# Altium footprint library BB.001.00.00.PcbLib: 93 footprints (part 5 of 6)
Each footprint in its own frame and in the unit in brackets; x right, y up, seen from the top. Pads: shape width x height; smd on the part's side, far side on the other; paste and mask are expansions set on the pad; w line width, h text height; cw(c..) or ccw(c..) is an arc to the next point about the centre after c.
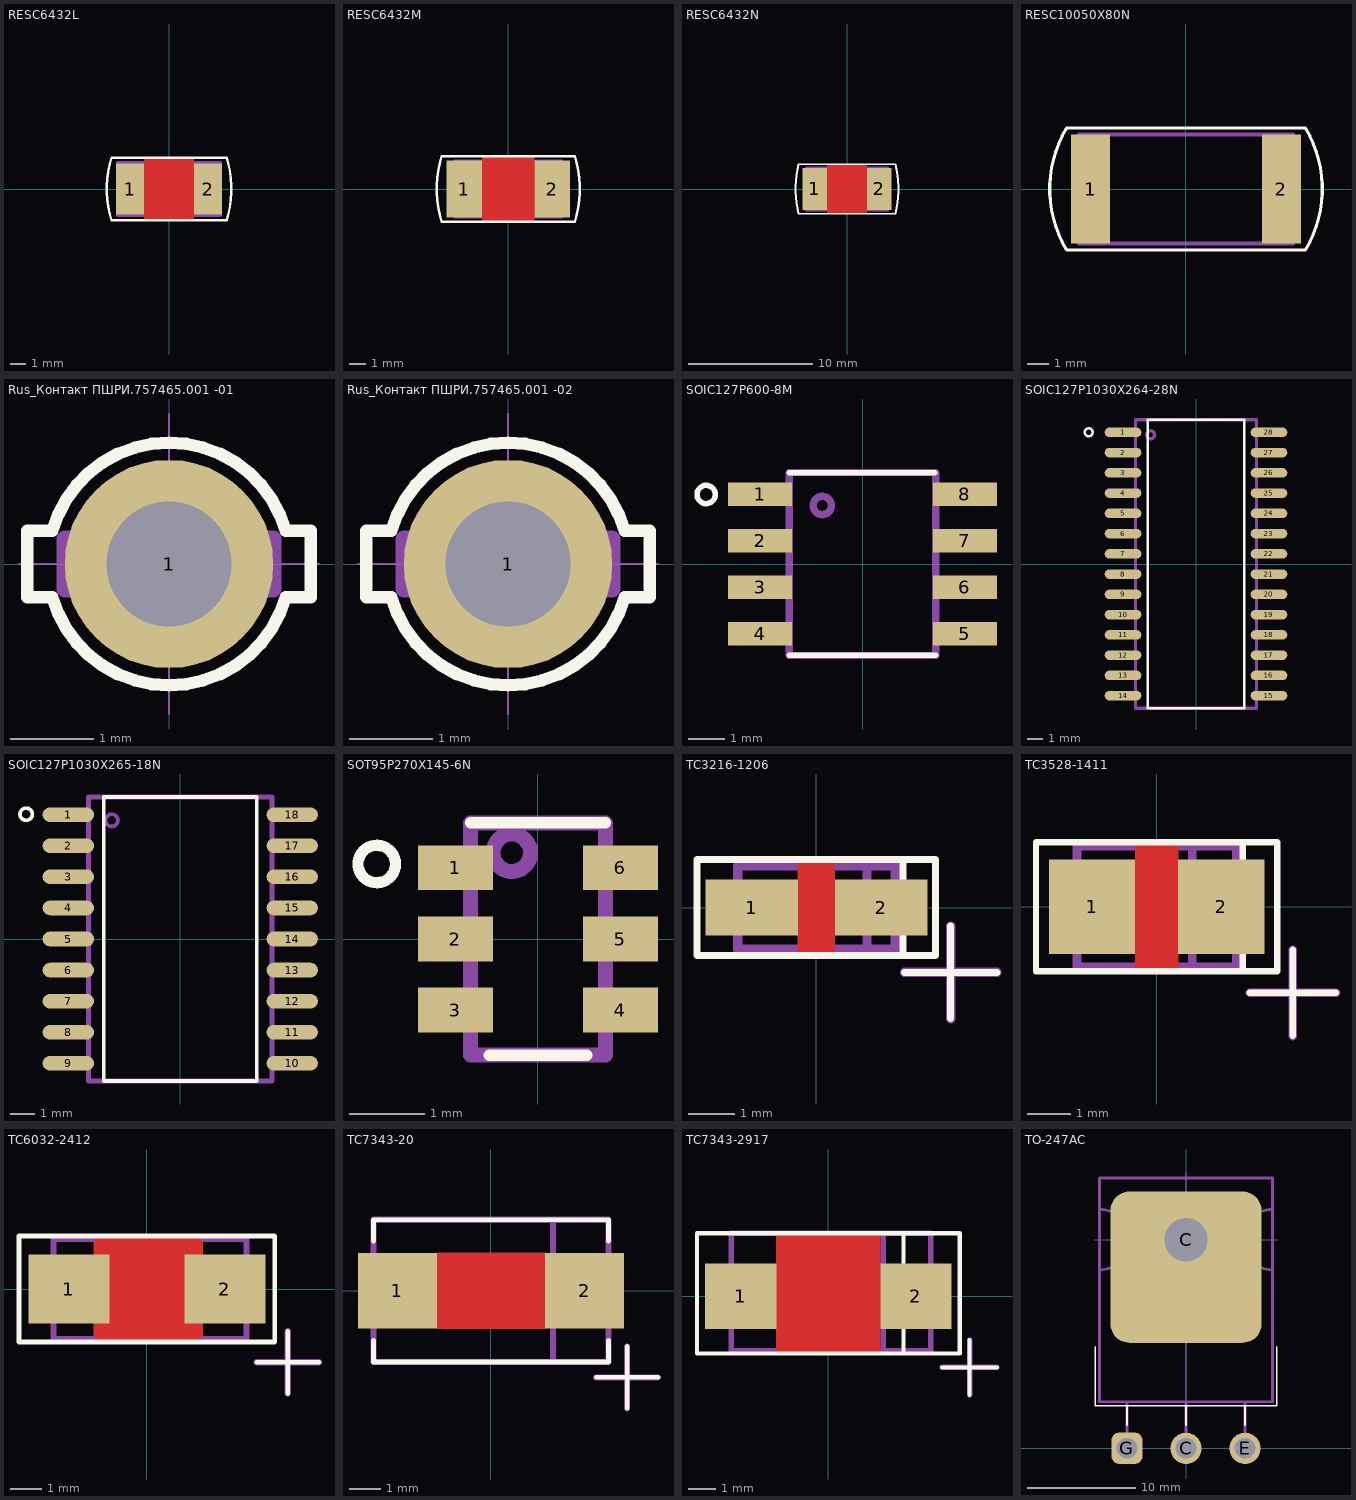
[diagram p4: the footprints below, top view; thin cyan lines are the x and y axes]

## RESC6432L [mm] "Chip Resistor, Body 6.4x3.2mm, IPC High Density"
height 1.2
pads (2):
  rect 1.8x3.3 smd: 1(-2.5,0) 2(2.5,0)
Top Layer:
  pour cut-out: -1.6,2 -1.6,-2 1.6,-2 1.6,2
Top Overlay:
  lines w0.15: -3.7,-2 cw(c2.813,0) -3.7,2 3.7,2 cw(c-2.817,0) 3.7,-2 -3.7,-2
TopAsy:
  lines w0.2: -3.3,-1.7 -3.3,1.7 3.3,1.7 3.3,-1.7 -3.3,-1.7
3D body: height 1.2, standoff 0, extent -3.3,-1.7 3.3,1.7

## RESC6432M [mm] "Chip Resistor, Body 6.4x3.2mm, IPC Low Density"
height 1.2
pads (2):
  rect 2.2x3.5 smd: 1(-2.7,0) 2(2.7,0)
Top Layer:
  pour cut-out: -1.6,2 -1.6,-2 1.6,-2 1.6,2
Top Overlay:
  lines w0.15: -4.1,-2 cw(c2.4,0) -4.1,2 4.1,2 cw(c-2.417,0) 4.1,-2 -4.1,-2
TopAsy:
  lines w0.2: -3.3,-1.7 3.3,-1.7 3.3,1.7 -3.3,1.7 -3.3,-1.7
3D body: height 1.2, standoff 0, extent -3.3,-1.7 3.3,1.7

## RESC6432N [mm] "Chip Resistor, Body 6.4x3.2mm, IPC Medium Density"
height 1.2
pads (2):
  rect 2x3.4 smd: 1(-2.6,0) 2(2.6,0)
Top Layer:
  pour cut-out: -1.6,2 -1.6,-2 1.6,-2 1.6,2
Top Overlay:
  lines w0.15: -3.9,-2 cw(c3.975,0) -3.9,2 3.9,2 cw(c-3.975,0) 3.9,-2 -3.9,-2
TopAsy:
  lines w0.2: -3.3,-1.7 3.3,-1.7 3.3,1.7 -3.3,1.7 -3.3,-1.7
3D body: height 1.2, standoff 0, extent -3.3,-1.7 3.3,1.7

## RESC10050X80N [mm] "SMD; Body:10,2Х5,2Х0,8mm; Чип-резистор"
height 0.8
pads (2):
  rect 1.85x5.2 smd paste+0: 1(-4.55,0) 2(4.55,0)
Top Overlay:
  lines w0.15: -5.7,-2.9 cw(c-0.844,0) -5.7,2.9 5.7,2.9 cw(c0.844,0) 5.7,-2.9 -5.7,-2.9
TopAsy:
  lines w0.2: -4,-2.5 -4,2.5 ; 4,-2.5 4,2.5 ; -5.1,-2.6 5.1,-2.6 5.1,2.6 -5.1,2.6 -5.1,-2.6
3D body "Резистор Р1-12-2,0-750 Ом _ Т АЛЯР.434110.005 ТУ.stp": height 0.8, standoff 0, extent -5,-2.5 5,2.5

## Rus_Контакт ПШРИ.757465.001 -01 [mm] "THD; Body: L=2.5mm, B=0,6mm, H=8mm; Weight: 0.13g; д.н. ПШРИ.757465.001 -01, Контакт для ПП толщиной 1,5 мм, при объемном монтаже, см. ОСТ4 Г0.812.201"
height 5.2
pads (1):
  round 2.5 / inner round 2.5 / far side oval 4.5x3 hole 1.5: 1(0,0)
Top Overlay:
  lines w0.15: -1.7,-0.4 -1.7,0.4 -1.4,0.4 cw(c0,0) 1.4,0.4 1.7,0.4 1.7,-0.4 1.4,-0.4 cw(c0,0) -1.4,-0.4 -1.7,-0.4
TopAsy:
  lines w0.025: -1.8,0 1.8,0 ; 0,-1.8 0,1.8
  lines w0.2: -1.25,-0.3 1.25,-0.3 1.25,0.3 -1.25,0.3 -1.25,-0.3
3D body "ПШРИ.757465.001 -01 (Контакт по ОСТ4 Г0.812.201).STEP": height 5.2, standoff -2.8, extent -1.25,-0.3 1.25,0.3

## Rus_Контакт ПШРИ.757465.001 -02 [mm] "THD; Body: L=2.5mm, B=0,6mm, H=8,5mm; Weight: 0.14g; д.н. ПШРИ.757465.001 -01, Контакт для ПП толщиной 2 мм, при объемном монтаже, см. ОСТ4 Г0.812.201"
height 5.2
pads (1):
  round 2.5 / inner round 2.5 / far side oval 4.5x3 hole 1.5: 1(0,0)
Top Overlay:
  lines w0.15: -1.7,-0.4 -1.4,-0.4 ccw(c0,0) 1.4,-0.4 1.7,-0.4 1.7,0.4 1.4,0.4 ccw(c0,0) -1.4,0.4 -1.7,0.4 -1.7,-0.4
TopAsy:
  lines w0.025: -1.8,0 1.8,0 ; 0,-1.8 0,1.8
  lines w0.2: -1.25,-0.3 -1.25,0.3 1.25,0.3 1.25,-0.3 -1.25,-0.3
3D body "ПШРИ.757465.001 -02 (Контакт по ОСТ4 Г0.812.201).STEP": height 5.2, standoff -3.3, extent -1.25,-0.3 1.25,0.3

## SOIC127P600-8M [mm] "SOIC, 8-Leads, Body 4.9x3.9mm, Pitch 1.27mm, IPC Low Density"
height 1.75
pads (8):
  rect 1.75x0.65 smd: 1(-2.8,1.905) 2(-2.8,0.635) 3(-2.8,-0.635) 4(-2.8,-1.905) 5(2.8,-1.905) 6(2.8,-0.635) 7(2.8,0.635) 8(2.8,1.905)
Top Overlay:
  circle w0.15: c-4.275,1.9 r0.25
  lines w0.15: -2,-2.5 2,-2.5 ; -2,2.5 1.975,2.5
TopAsy:
  circle w0.2: c-1.1,1.6 r0.25
  lines w0.2: -2,-2.5 2,-2.5 2,2.5 -2,2.5 -2,-2.5
3D body "SOIC127P600-8.STEP": height 1.7, standoff 0, extent -3,-2.54 3,2.54

## SOIC127P1030X264-28N [mm] "SOIC, 28-Leads, Body 17,86x7,46mm, Pitch 1,27mm, IPC Medium Density"
height 2.64
pads (28):
  oval 2.3x0.6 smd: 1(-4.575,8.255) 2(-4.575,6.985) 3(-4.575,5.715) 4(-4.575,4.445) 5(-4.575,3.175) 6(-4.575,1.905) 7(-4.575,0.635) 8(-4.575,-0.635) 9(-4.575,-1.905) 10(-4.575,-3.175) 11(-4.575,-4.445) 12(-4.575,-5.715) 13(-4.575,-6.985) 14(-4.575,-8.255) 15(4.575,-8.255) 16(4.575,-6.985) 17(4.575,-5.715) 18(4.575,-4.445) 19(4.575,-3.175) 20(4.575,-1.905) 21(4.575,-0.635) 22(4.575,0.635) 23(4.575,1.905) 24(4.575,3.175) 25(4.575,4.445) 26(4.575,5.715) 27(4.575,6.985) 28(4.575,8.255)
Top Overlay:
  circle w0.15: c-6.73,8.26 r0.25
  lines w0.15: -3.025,-9.05 -3.025,9.05 3.025,9.05 3.025,-9.05 -3.025,-9.05
TopAsy:
  circle w0.2: c-2.85,8.1 r0.25
  lines w0.2: -3.8,-9.05 -3.8,9.05 3.8,9.05 3.8,-9.05 -3.8,-9.05
3D body "SW3dPS-80072036 SO28.STEP": height 2.66, standoff 0.02, extent -5.335,-9.04 5.335,9.04

## SOIC127P1030X265-18N [mm] "SOIC, 18-Leads, Body 11,55x7,50mm, Pitch 1,27mm, IPC Medium Density"
height 2.65
pads (18):
  oval 2.1x0.6 smd: 1(-4.575,5.08) 2(-4.575,3.81) 3(-4.575,2.54) 4(-4.575,1.27) 5(-4.575,0) 6(-4.575,-1.27) 7(-4.575,-2.54) 8(-4.575,-3.81) 9(-4.575,-5.08) 10(4.575,-5.08) 11(4.575,-3.81) 12(4.575,-2.54) 13(4.575,-1.27) 14(4.575,0) 15(4.575,1.27) 16(4.575,2.54) 17(4.575,3.81) 18(4.575,5.08)
Top Overlay:
  circle w0.15: c-6.3,5.1 r0.25
  lines w0.15: -3.125,-5.8 -3.125,5.8 3.125,5.8 3.125,-5.8 -3.125,-5.8
TopAsy:
  circle w0.15: c-2.8,4.85 r0.25
  lines w0.2: -3.75,-5.8 -3.75,5.8 3.75,5.8 3.75,-5.8 -3.75,-5.8
3D body "SO18W.STEP": height 2.55, standoff 0, extent -5.1,-5.775 5.2,5.775

## SOT95P270X145-6N [mm] "SOT23, 6-Leads, Body 2,90x2,70mm, Pitch 0,95mm, IPC Medium Density"
height 1.45
pads (6):
  rect 1x0.6 smd: 1(-1.1,0.95) 2(-1.1,0) 3(-1.1,-0.95) 4(1.1,-0.95) 5(1.1,0) 6(1.1,0.95)
Top Overlay:
  circle w0.15: c-2.15,1 r0.25
  lines w0.15: -0.9,1.55 0.9,1.55 ; -0.65,-1.55 0.65,-1.55
TopAsy:
  lines w0.2: -0.11,1.219 ccw(c-0.35,1.15) -0.1,1.15 ; -0.9,-1.55 0.9,-1.55 0.9,1.55 -0.9,1.55 -0.9,-1.55
3D body "SOT23-6_AND_SOT26.STEP": height 1.02, standoff 0.02, extent -1.375,-1.45 1.375,1.45

## TC3216-1206 [mm] "Capacitor, SM Tantalum; Body 3.2 x 1.6 mm (LxW typ)"
height 2.2
pads (2):
  rect 2x1.2 smd: 1(-1.4,0) 2(1.4,0)
Top Layer:
  pour cut-out: -0.4,1 -0.4,-1 0.4,-1 0.4,1
Top Overlay:
  lines w0.15: -2.58,-1.04 -2.58,1.04 2.56,1.04 ; -2.57,-1.04 2.55,-1.04 ; 1.87,-1.04 1.87,1.04 ; 1.9,-1.4 3.9,-1.4 ; 2.57,-1.04 2.57,1.04 ; 2.9,-2.4 2.9,-0.4
TopAsy:
  lines w0.2: 1.09,-0.9 1.09,0.9 ; 1.9,-1.4 3.9,-1.4 ; 2.9,-2.4 2.9,-0.4 ; -1.7,-0.9 1.7,-0.9 1.7,0.9 -1.7,0.9 -1.7,-0.9
3D body "TAJA.STEP": height 1.81, standoff 0, extent -1.7,-0.9 1.7,0.9

## TC3528-1411 [mm] "Capacitor, SM Tantalum; Body 3.5 x 2.8 mm (LxW typ)"
height 2.5
pads (2):
  rect 2x2.2 smd: 1(-1.5,0) 2(1.5,0)
Top Layer:
  pour cut-out: -0.5,1.5 -0.5,-1.5 0.5,-1.5 0.5,1.5
Top Overlay:
  lines w0.15: 2,-1.5 2,1.5 ; 2.16,-2 4.16,-2 ; 3.16,-3 3.16,-1 ; -2.8,-1.5 -2.8,1.5 2.8,1.5 2.8,-1.5 -2.8,-1.5
TopAsy:
  lines w0.2: -1.85,-1.425 -1.85,1.4 1.85,1.4 1.85,-1.4 -1.85,-1.4 ; 0.825,-1.35 0.825,1.375 ; 2.16,-2 4.16,-2 ; 3.16,-3 3.16,-1
3D body "User Library-Tantalum Capacitor Case B.STEP": height 2.1, standoff 0, extent -1.854,-1.419 1.836,1.401

## TC6032-2412 [mm] "Capacitor, SM Tantalum; Body 6.0 x 3.2 mm (LxW typ)"
height 3.2
pads (2):
  rect 2.6x2.2 smd: 1(-2.5,0) 2(2.5,0)
Top Layer:
  pour cut-out: -1.46,1.75 -1.71,1.5 -1.71,-1.5 -1.46,-1.75 1.54,-1.75 1.79,-1.5 1.79,1.5 1.54,1.75
Top Overlay:
  lines w0.15: 3.52,-2.35 5.52,-2.35 ; 4.52,-3.35 4.52,-1.35 ; -4.1,-1.7 -4.1,1.7 4.1,1.7 4.1,-1.7 -4.1,-1.7
TopAsy:
  lines w0.2: 1.5,-1.6 1.5,1.605 ; 3.52,-2.35 5.52,-2.35 ; 4.52,-3.35 4.52,-1.35 ; -2.993,-1.6 -2.993,1.605 3.193,1.605 3.193,-1.6 -2.993,-1.6
3D body "SW3dPS-Solid Tantalum Chip Capacitor.STEP": height 2.81, standoff -0.02, extent -3.799,-1.757 3.798,1.756

## TC7343-20 [mm] "Molded Capacitor, 2-Leads, Body 7,30x4,30mm, IPC Medium Density"
height 2.1
pads (2):
  rect 2.55x2.45 smd: 1(-3.025,0) 2(3.025,0)
Top Layer:
  pour cut-out: -1.75,1.225 -1.75,-1.225 1.75,-1.225 1.75,1.225
Top Overlay:
  lines w0.15: -3.8,-1.6 -3.8,-2.3 3.8,-2.3 3.8,-1.6 ; -3.8,1.6 -3.8,2.3 3.8,2.3 3.8,1.6 ; 3.4,-2.8 5.4,-2.8 ; 4.4,-3.8 4.4,-1.8
TopAsy:
  lines w0.2: 2,-2.3 2,2.3 ; 3.4,-2.8 5.4,-2.8 ; 4.4,-3.8 4.4,-1.8 ; -3.8,-2.3 -3.8,2.3 3.8,2.3 3.8,-2.3 -3.8,-2.3
3D body "User Library-T520V.STEP": height 1.91, standoff 0.01, extent -3.65,-2.1 3.65,2.2

## TC7343-2917 [mm] "Capacitor, SM Tantalum; Body 7.3 x 4.3 mm (LxW typ)"
height 4.4
pads (2):
  rect 2.6x2.4 smd: 1(-3.2,0) 2(3.2,0)
Top Layer:
  pour cut-out: -1.9,2.3 -1.9,-2.1 1.9,-2.1 1.9,2.3
Top Overlay:
  lines w0.15: 2.75,-2.1 2.75,2.3 ; 4.16,-2.6 6.16,-2.6 ; 5.16,-3.6 5.16,-1.6 ; -4.8,-2.1 4.8,-2.1 4.8,2.3 -4.8,2.3 -4.8,-2.1
TopAsy:
  lines w0.2: 2,-2 2,2.3 ; 4.16,-2.6 6.16,-2.6 ; 5.16,-3.6 5.16,-1.6 ; -3.547,-2 3.747,-2 3.747,2.3 -3.547,2.3 -3.547,-2
3D body "SW3dPS-cap_d.STEP": height 2.81, standoff 0, extent -3.547,-2 3.747,2.3

## TO-247AC [mm]
height 5.4
pads (4):
  round 2.9 hole 1.9: C(0,0) E(5.46,0)
  rrect25% 14x14 hole 4 copper offset 0,-2.54: C(0,19.304)
  rrect50% 2.9x2.9 hole 1.9: G(-5.46,0)
Top Overlay:
  lines w0.15: -8.382,9.398 -8.382,3.937 8.382,3.937 8.382,9.398 ; -5.461,2.159 -5.461,3.937 ; -0.001,2.159 -0.001,3.937 ; 5.459,2.159 5.459,3.937
TopAsy:
  circle w0.254: c0,19.304 r1.905
  lines w0.025: -8.509,19.304 8.509,19.304 ; 0,-0.508 0,25.527
  lines w0.254: -8.001,16.51 ccw(c-8.001,19.304) -8.001,22.098 ; -5.46,0 -5.46,4.318 ; 0,0 0,4.318 ; 5.46,0 5.46,4.318 ; 8.001,16.51 cw(c8.001,19.304) 8.001,22.098 ; -8.001,4.318 -8.001,25.019 8.001,25.019 8.001,4.318 -8.001,4.318